# EAGLE library part CEP99-102 (library CEP99-102)
Pulse transformer for Automobiles.High withstand Voltage 2,500Vrms,Operating temperature - 40deg. +125deg. Source: Datasheet <https://products.sumida.com/products/pdf/CEP99_CEP99B_eng_rev2.pdf?t=1532030986>
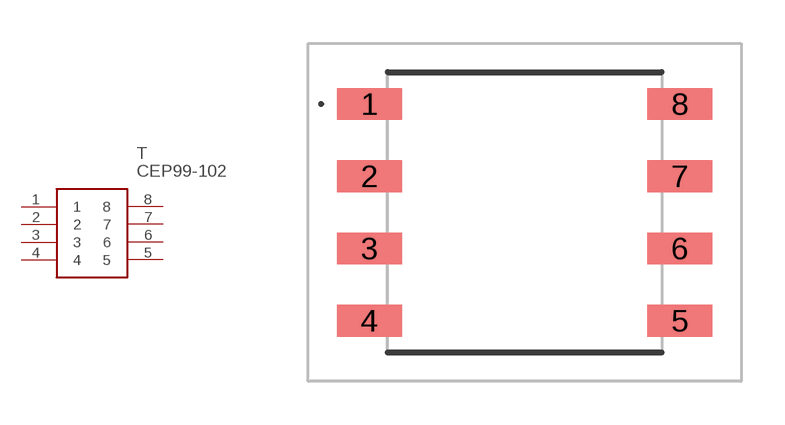
[diagram p0: symbol with the pads of CEP99102; footprint CEP99102]

Designator prefix T

## CEP99-102 (Description: Pulse transformer for Automobiles.High withstand Voltage 2,500Vrms,Operating temperature - 40deg. +125deg.; Height: 10mm; Manufacturer_Name: Sumida; Manufacturer_Part_Number: CEP99-102)  [CEP99102]
1  1
2  2
3  3
4  4
5  5
6  6
7  7
8  8

## Footprint CEP99102 (pad centres in mm)
CEP99-102-1
smd 2.25 x 1.1: 1 -5.375,3.75; 2 -5.375,1.25; 3 -5.375,-1.25; 4 -5.375,-3.75; 5 5.375,-3.75; 6 5.375,-1.25; 7 5.375,1.25; 8 5.375,3.75